# EAGLE library part W25Q16DVSNIG (library SamacSys_Parts)
IC FLASH 16M SPI 104MHZ 8SOIC Source: Datasheet <http://www.winbond.com/resource-files/w25q16dv revk 05232016 doc.pdf>
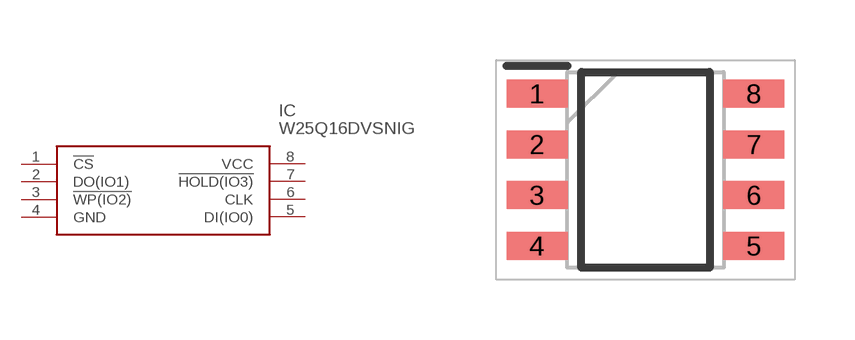
[diagram p27: symbol with the pads of SOIC127P600X175-8N; footprint SOIC127P600X175-8N]

Designator prefix IC

## W25Q16DVSNIG (DESCRIPTION: IC FLASH 16M SPI 104MHZ 8SOIC; HEIGHT: 1.75mm; MANUFACTURER_NAME: Winbond; MANUFACTURER_PART_NUMBER: W25Q16DVSNIG; MOUSER_PART_NUMBER: N/A; MOUSER_PRICE-STOCK: https://www.mouser.co.uk/ProductDetail/Winbond/W25Q16DVSNIG?qs=rkhjVJ6%2F3EItzywGiwU9Ow%3D%3D)  [SOIC127P600X175-8N]
1  !CS
2  DO(IO1)
3  !WP(IO2)
4  GND
5  DI(IO0)
6  CLK
7  !HOLD(IO3)
8  VCC

## Footprint SOIC127P600X175-8N (pad centres in mm)
SOIC8 CASE 751EB_
smd 1.525 x 0.7: 1 -2.712,1.905; 2 -2.712,0.635; 3 -2.712,-0.635; 4 -2.712,-1.905; 5 2.712,-1.905; 6 2.712,-0.635; 7 2.712,0.635; 8 2.712,1.905